# Altium schematic symbol library bq25690rbar.SchLib: 1 symbol
Pins are listed as number, name and electrical type; pins without a type are passive.

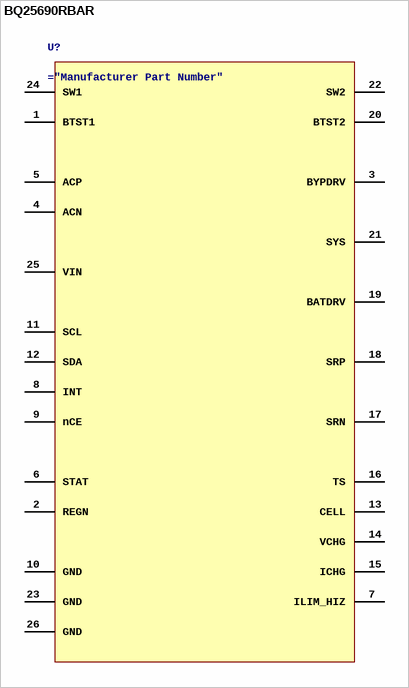
[diagram p0: symbol BQ25690RBAR]

## BQ25690RBAR
designator U?
Charger IC Lithium Ion/Polymer 26-WQFN-HR (4x3.5)
pins: 1 BTST1, 2 REGN, 3 BYPDRV, 4 ACN, 5 ACP, 6 STAT, 7 ILIM_HIZ, 8 INT, 9 nCE, 10 GND, 11 SCL, 12 SDA, 13 CELL, 14 VCHG, 15 ICHG, 16 TS, 17 SRN, 18 SRP, 19 BATDRV, 20 BTST2, 21 SYS, 22 SW2, 23 GND, 24 SW1, 25 VIN, 26 GND